# EAGLE library part BQ7692006PW (library LinnesLab-Power)
EAGLE model of BQ7692006PW - multi-cell battery monitor. Symbol made in-house and footprint from SnapEDA.
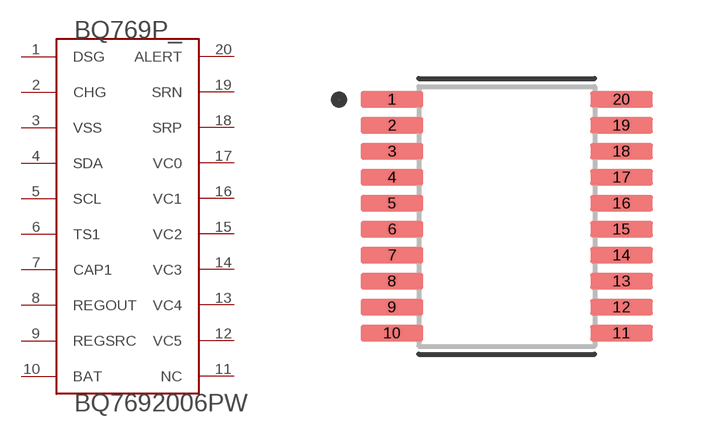
[diagram p11: symbol with the pads of BQ7692006PW; footprint BQ7692006PW]

Designator prefix BQ769P_

## BQ7692006PWSMD  [BQ7692006PW]
1  DSG
2  CHG
3  VSS
4  SDA
5  SCL
6  TS1
7  CAP1
8  REGOUT
9  REGSRC
10  BAT
11  NC  nc
12  VC5
13  VC4
14  VC3
15  VC2
16  VC1
17  VC0
18  SRP
19  SRN
20  ALERT

## Footprint BQ7692006PW (pad centres in mm)
smd 1.57 x 0.41: 1 -2.87,2.925; 2 -2.87,2.275; 3 -2.87,1.625; 4 -2.87,0.975; 5 -2.87,0.325; 6 -2.87,-0.325; 7 -2.87,-0.975; 8 -2.87,-1.625; 9 -2.87,-2.275; 10 -2.87,-2.925; 11 2.87,-2.925; 12 2.87,-2.275; 13 2.87,-1.625; 14 2.87,-0.975; 15 2.87,-0.325; 16 2.87,0.325; 17 2.87,0.975; 18 2.87,1.625; 19 2.87,2.275; 20 2.87,2.925